# Altium footprint library Capacitor_THT.PcbLib: 378 footprints (part 21 of 24)
Each footprint in its own frame and in the unit in brackets; x right, y up, seen from the top. Pads: shape width x height; smd on the part's side, far side on the other; paste and mask are expansions set on the pad; w line width, h text height; cw(c..) or ccw(c..) is an arc to the next point about the centre after c.
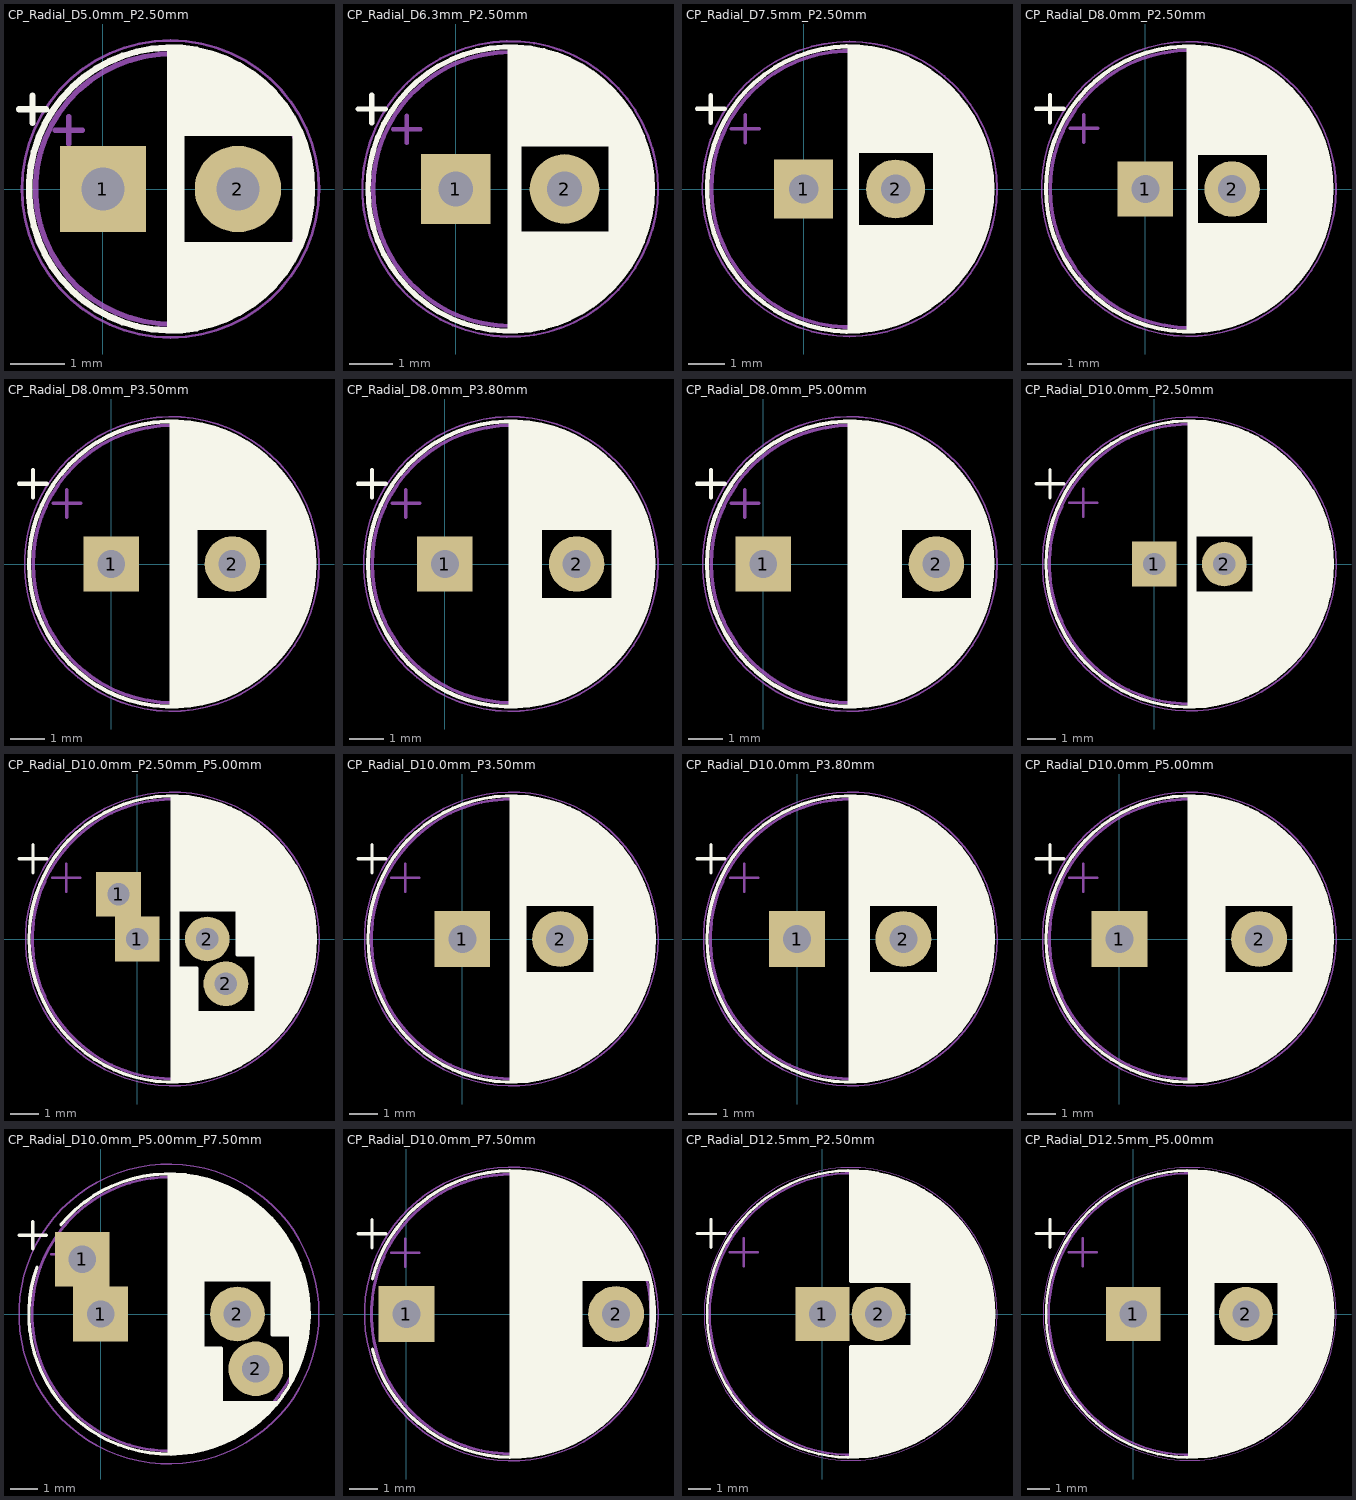
[diagram p20: the footprints below, top view; thin cyan lines are the x and y axes]

## CP_Radial_D5.0mm_P2.50mm [mm]
pads (2):
  rect 1.6x1.6 hole 0.8: 1(0,0)
  round 1.6 hole 0.8: 2(2.5,0)
F.SilkS:
  circle w0.12: c1.25,0 r2.62
  lines w0.12: -1.555,1.475 -1.055,1.475 ; -1.305,1.225 -1.305,1.725 ; 1.25,-2.58 1.25,2.58 ; 1.29,-2.58 1.29,2.58 ; 1.33,-2.579 1.33,2.579 ; 1.37,-2.578 1.37,2.578 ; 1.41,-2.576 1.41,2.576 ; 1.45,-2.573 1.45,2.573 ; 1.49,-2.569 1.49,-1.04 ; 1.49,1.04 1.49,2.569 ; 1.53,-2.565 1.53,-1.04 ; 1.53,1.04 1.53,2.565 ; 1.57,-2.561 1.57,-1.04 ; 1.57,1.04 1.57,2.561 ; 1.61,-2.556 1.61,-1.04 ; 1.61,1.04 1.61,2.556 ; 1.65,-2.55 1.65,-1.04 ; 1.65,1.04 1.65,2.55 ; 1.69,-2.543 1.69,-1.04 ; 1.69,1.04 1.69,2.543 ; 1.73,-2.536 1.73,-1.04 ; 1.73,1.04 1.73,2.536 ; 1.77,-2.528 1.77,-1.04 ; 1.77,1.04 1.77,2.528 ; 1.81,-2.52 1.81,-1.04 ; 1.81,1.04 1.81,2.52 ; 1.85,-2.511 1.85,-1.04 ; 1.85,1.04 1.85,2.511 ; 1.89,-2.501 1.89,-1.04 ; 1.89,1.04 1.89,2.501 ; 1.93,-2.491 1.93,-1.04 ; 1.93,1.04 1.93,2.491 ; 1.971,-2.48 1.971,-1.04 ; 1.971,1.04 1.971,2.48 ; 2.011,-2.468 2.011,-1.04 ; 2.011,1.04 2.011,2.468 ; 2.051,-2.455 2.051,-1.04 ; 2.051,1.04 2.051,2.455 ; 2.091,-2.442 2.091,-1.04 ; 2.091,1.04 2.091,2.442 ; 2.131,-2.428 2.131,-1.04 ; 2.131,1.04 2.131,2.428 ; 2.171,-2.414 2.171,-1.04 ; 2.171,1.04 2.171,2.414 ; 2.211,-2.398 2.211,-1.04 ; 2.211,1.04 2.211,2.398 ; 2.251,-2.382 2.251,-1.04 ; 2.251,1.04 2.251,2.382 ; 2.291,-2.365 2.291,-1.04 ; 2.291,1.04 2.291,2.365 ; 2.331,-2.348 2.331,-1.04 ; 2.331,1.04 2.331,2.348 ; 2.371,-2.329 2.371,-1.04 ; 2.371,1.04 2.371,2.329 ; 2.411,-2.31 2.411,-1.04 ; 2.411,1.04 2.411,2.31 ; 2.451,-2.29 2.451,-1.04 ; 2.451,1.04 2.451,2.29 ; 2.491,-2.268 2.491,-1.04 ; 2.491,1.04 2.491,2.268 ; 2.531,-2.247 2.531,-1.04 ; 2.531,1.04 2.531,2.247 ; 2.571,-2.224 2.571,-1.04 ; 2.571,1.04 2.571,2.224 ; 2.611,-2.2 2.611,-1.04 ; 2.611,1.04 2.611,2.2 ; 2.651,-2.175 2.651,-1.04 ; 2.651,1.04 2.651,2.175 ; 2.691,-2.149 2.691,-1.04 ; 2.691,1.04 2.691,2.149 ; 2.731,-2.122 2.731,-1.04 ; 2.731,1.04 2.731,2.122 ; 2.771,-2.095 2.771,-1.04 ; 2.771,1.04 2.771,2.095 ; 2.811,-2.065 2.811,-1.04 ; 2.811,1.04 2.811,2.065 ; 2.851,-2.035 2.851,-1.04 ; 2.851,1.04 2.851,2.035 ; 2.891,-2.004 2.891,-1.04 ; 2.891,1.04 2.891,2.004 ; 2.931,-1.971 2.931,-1.04 ; 2.931,1.04 2.931,1.971 ; 2.971,-1.937 2.971,-1.04 ; 2.971,1.04 2.971,1.937 ; 3.011,-1.901 3.011,-1.04 ; 3.011,1.04 3.011,1.901 ; 3.051,-1.864 3.051,-1.04 ; 3.051,1.04 3.051,1.864 ; 3.091,-1.826 3.091,-1.04 ; 3.091,1.04 3.091,1.826 ; 3.131,-1.785 3.131,-1.04 ; 3.131,1.04 3.131,1.785 ; 3.171,-1.743 3.171,-1.04 ; 3.171,1.04 3.171,1.743 ; 3.211,-1.699 3.211,-1.04 ; 3.211,1.04 3.211,1.699 ; 3.251,-1.653 3.251,-1.04 ; 3.251,1.04 3.251,1.653 ; 3.291,-1.605 3.291,-1.04 ; 3.291,1.04 3.291,1.605 ; 3.331,-1.554 3.331,-1.04 ; 3.331,1.04 3.331,1.554 ; 3.371,-1.5 3.371,-1.04 ; 3.371,1.04 3.371,1.5 ; 3.411,-1.443 3.411,-1.04 ; 3.411,1.04 3.411,1.443 ; 3.451,-1.383 3.451,-1.04 ; 3.451,1.04 3.451,1.383 ; 3.491,-1.319 3.491,-1.04 ; 3.491,1.04 3.491,1.319 ; 3.531,-1.251 3.531,-1.04 ; 3.531,1.04 3.531,1.251 ; 3.571,-1.178 3.571,1.178 ; 3.611,-1.098 3.611,1.098 ; 3.651,-1.011 3.651,1.011 ; 3.691,-0.915 3.691,0.915 ; 3.731,-0.805 3.731,0.805 ; 3.771,-0.677 3.771,0.677 ; 3.811,-0.518 3.811,0.518 ; 3.851,-0.284 3.851,0.284
F.CrtYd:
  circle w0.05: c1.25,0 r2.75
F.Fab:
  circle w0.1: c1.25,0 r2.5
  lines w0.1: -0.884,1.088 -0.384,1.088 ; -0.634,0.837 -0.634,1.338
  text "'.Designator'" at -2.797,-0.84 h1

## CP_Radial_D6.3mm_P2.50mm [mm]
pads (2):
  rect 1.6x1.6 hole 0.8: 1(0,0)
  round 1.6 hole 0.8: 2(2.5,0)
F.SilkS:
  circle w0.12: c1.25,0 r3.27
  lines w0.12: -2.25,1.839 -1.62,1.839 ; -1.935,1.524 -1.935,2.154 ; 1.25,-3.23 1.25,3.23 ; 1.29,-3.23 1.29,3.23 ; 1.33,-3.23 1.33,3.23 ; 1.37,-3.228 1.37,3.228 ; 1.41,-3.227 1.41,3.227 ; 1.45,-3.224 1.45,3.224 ; 1.49,-3.222 1.49,-1.04 ; 1.49,1.04 1.49,3.222 ; 1.53,-3.218 1.53,-1.04 ; 1.53,1.04 1.53,3.218 ; 1.57,-3.215 1.57,-1.04 ; 1.57,1.04 1.57,3.215 ; 1.61,-3.211 1.61,-1.04 ; 1.61,1.04 1.61,3.211 ; 1.65,-3.206 1.65,-1.04 ; 1.65,1.04 1.65,3.206 ; 1.69,-3.201 1.69,-1.04 ; 1.69,1.04 1.69,3.201 ; 1.73,-3.195 1.73,-1.04 ; 1.73,1.04 1.73,3.195 ; 1.77,-3.189 1.77,-1.04 ; 1.77,1.04 1.77,3.189 ; 1.81,-3.182 1.81,-1.04 ; 1.81,1.04 1.81,3.182 ; 1.85,-3.175 1.85,-1.04 ; 1.85,1.04 1.85,3.175 ; 1.89,-3.167 1.89,-1.04 ; 1.89,1.04 1.89,3.167 ; 1.93,-3.159 1.93,-1.04 ; 1.93,1.04 1.93,3.159 ; 1.971,-3.15 1.971,-1.04 ; 1.971,1.04 1.971,3.15 ; 2.011,-3.141 2.011,-1.04 ; 2.011,1.04 2.011,3.141 ; 2.051,-3.131 2.051,-1.04 ; 2.051,1.04 2.051,3.131 ; 2.091,-3.121 2.091,-1.04 ; 2.091,1.04 2.091,3.121 ; 2.131,-3.11 2.131,-1.04 ; 2.131,1.04 2.131,3.11 ; 2.171,-3.098 2.171,-1.04 ; 2.171,1.04 2.171,3.098 ; 2.211,-3.086 2.211,-1.04 ; 2.211,1.04 2.211,3.086 ; 2.251,-3.074 2.251,-1.04 ; 2.251,1.04 2.251,3.074 ; 2.291,-3.061 2.291,-1.04 ; 2.291,1.04 2.291,3.061 ; 2.331,-3.047 2.331,-1.04 ; 2.331,1.04 2.331,3.047 ; 2.371,-3.033 2.371,-1.04 ; 2.371,1.04 2.371,3.033 ; 2.411,-3.018 2.411,-1.04 ; 2.411,1.04 2.411,3.018 ; 2.451,-3.002 2.451,-1.04 ; 2.451,1.04 2.451,3.002 ; 2.491,-2.986 2.491,-1.04 ; 2.491,1.04 2.491,2.986 ; 2.531,-2.97 2.531,-1.04 ; 2.531,1.04 2.531,2.97 ; 2.571,-2.952 2.571,-1.04 ; 2.571,1.04 2.571,2.952 ; 2.611,-2.934 2.611,-1.04 ; 2.611,1.04 2.611,2.934 ; 2.651,-2.916 2.651,-1.04 ; 2.651,1.04 2.651,2.916 ; 2.691,-2.896 2.691,-1.04 ; 2.691,1.04 2.691,2.896 ; 2.731,-2.876 2.731,-1.04 ; 2.731,1.04 2.731,2.876 ; 2.771,-2.856 2.771,-1.04 ; 2.771,1.04 2.771,2.856 ; 2.811,-2.834 2.811,-1.04 ; 2.811,1.04 2.811,2.834 ; 2.851,-2.812 2.851,-1.04 ; 2.851,1.04 2.851,2.812 ; 2.891,-2.79 2.891,-1.04 ; 2.891,1.04 2.891,2.79 ; 2.931,-2.766 2.931,-1.04 ; 2.931,1.04 2.931,2.766 ; 2.971,-2.742 2.971,-1.04 ; 2.971,1.04 2.971,2.742 ; 3.011,-2.716 3.011,-1.04 ; 3.011,1.04 3.011,2.716 ; 3.051,-2.69 3.051,-1.04 ; 3.051,1.04 3.051,2.69 ; 3.091,-2.664 3.091,-1.04 ; 3.091,1.04 3.091,2.664 ; 3.131,-2.636 3.131,-1.04 ; 3.131,1.04 3.131,2.636 ; 3.171,-2.607 3.171,-1.04 ; 3.171,1.04 3.171,2.607 ; 3.211,-2.578 3.211,-1.04 ; 3.211,1.04 3.211,2.578 ; 3.251,-2.548 3.251,-1.04 ; 3.251,1.04 3.251,2.548 ; 3.291,-2.516 3.291,-1.04 ; 3.291,1.04 3.291,2.516 ; 3.331,-2.484 3.331,-1.04 ; 3.331,1.04 3.331,2.484 ; 3.371,-2.45 3.371,-1.04 ; 3.371,1.04 3.371,2.45 ; 3.411,-2.416 3.411,-1.04 ; 3.411,1.04 3.411,2.416 ; 3.451,-2.38 3.451,-1.04 ; 3.451,1.04 3.451,2.38 ; 3.491,-2.343 3.491,-1.04 ; 3.491,1.04 3.491,2.343 ; 3.531,-2.305 3.531,-1.04 ; 3.531,1.04 3.531,2.305 ; 3.571,-2.265 3.571,2.265 ; 3.611,-2.224 3.611,2.224 ; 3.651,-2.182 3.651,2.182 ; 3.691,-2.137 3.691,2.137 ; 3.731,-2.092 3.731,2.092 ; 3.771,-2.044 3.771,2.044 ; 3.811,-1.995 3.811,1.995 ; 3.851,-1.944 3.851,1.944 ; 3.891,-1.89 3.891,1.89 ; 3.931,-1.834 3.931,1.834 ; 3.971,-1.776 3.971,1.776 ; 4.011,-1.714 4.011,1.714 ; 4.051,-1.65 4.051,1.65 ; 4.091,-1.581 4.091,1.581 ; 4.131,-1.509 4.131,1.509 ; 4.171,-1.432 4.171,1.432 ; 4.211,-1.35 4.211,1.35 ; 4.251,-1.262 4.251,1.262 ; 4.291,-1.165 4.291,1.165 ; 4.331,-1.059 4.331,1.059 ; 4.371,-0.94 4.371,0.94 ; 4.411,-0.802 4.411,0.802 ; 4.451,-0.633 4.451,0.633 ; 4.491,-0.402 4.491,0.402
F.CrtYd:
  circle w0.05: c1.25,0 r3.4
F.Fab:
  circle w0.1: c1.25,0 r3.15
  lines w0.1: -1.444,1.373 -0.814,1.373 ; -1.129,1.058 -1.129,1.689
  text "'.Designator'" at -2.797,-0.84 h1

## CP_Radial_D7.5mm_P2.50mm [mm]
pads (2):
  rect 1.6x1.6 hole 0.8: 1(0,0)
  round 1.6 hole 0.8: 2(2.5,0)
F.SilkS:
  drawing of 152 lines, arcs and shapes, not listed
F.CrtYd:
  circle w0.05: c1.25,0 r4
F.Fab:
  circle w0.1: c1.25,0 r3.75
  lines w0.1: -1.961,1.637 -1.211,1.637 ; -1.586,1.262 -1.586,2.013
  text "'.Designator'" at -2.797,-0.84 h1

## CP_Radial_D8.0mm_P2.50mm [mm]
pads (2):
  rect 1.6x1.6 hole 0.8: 1(0,0)
  round 1.6 hole 0.8: 2(2.5,0)
F.SilkS:
  drawing of 158 lines, arcs and shapes, not listed
F.CrtYd:
  circle w0.05: c1.25,0 r4.25
F.Fab:
  circle w0.1: c1.25,0 r4
  lines w0.1: -2.177,1.747 -1.377,1.747 ; -1.777,1.348 -1.777,2.147
  text "'.Designator'" at -2.797,-0.84 h1

## CP_Radial_D8.0mm_P3.50mm [mm]
pads (2):
  rect 1.6x1.6 hole 0.8: 1(0,0)
  round 1.6 hole 0.8: 2(3.5,0)
F.SilkS:
  drawing of 158 lines, arcs and shapes, not listed
F.CrtYd:
  circle w0.05: c1.75,0 r4.25
F.Fab:
  circle w0.1: c1.75,0 r4
  lines w0.1: -1.677,1.747 -0.877,1.747 ; -1.277,1.348 -1.277,2.147
  text "'.Designator'" at -2.297,-0.84 h1

## CP_Radial_D8.0mm_P3.80mm [mm]
pads (2):
  rect 1.6x1.6 hole 0.8: 1(0,0)
  round 1.6 hole 0.8: 2(3.8,0)
F.SilkS:
  drawing of 158 lines, arcs and shapes, not listed
F.CrtYd:
  circle w0.05: c1.9,0 r4.25
F.Fab:
  circle w0.1: c1.9,0 r4
  lines w0.1: -1.527,1.747 -0.727,1.747 ; -1.127,1.348 -1.127,2.147
  text "'.Designator'" at -2.147,-0.84 h1

## CP_Radial_D8.0mm_P5.00mm [mm]
pads (2):
  rect 1.6x1.6 hole 0.8: 1(0,0)
  round 1.6 hole 0.8: 2(5,0)
F.SilkS:
  drawing of 158 lines, arcs and shapes, not listed
F.CrtYd:
  circle w0.05: c2.5,0 r4.25
F.Fab:
  circle w0.1: c2.5,0 r4
  lines w0.1: -0.927,1.747 -0.127,1.747 ; -0.527,1.348 -0.527,2.147
  text "'.Designator'" at -1.547,-0.84 h1

## CP_Radial_D10.0mm_P2.50mm [mm]
pads (2):
  rect 1.6x1.6 hole 0.8: 1(0,0)
  round 1.6 hole 0.8: 2(2.5,0)
F.SilkS:
  drawing of 183 lines, arcs and shapes, not listed
F.CrtYd:
  circle w0.05: c1.25,0 r5.25
F.Fab:
  circle w0.1: c1.25,0 r5
  lines w0.1: -3.039,2.187 -2.039,2.187 ; -2.539,1.687 -2.539,2.688
  text "'.Designator'" at -2.797,-0.84 h1

## CP_Radial_D10.0mm_P2.50mm_P5.00mm [mm]
pads (4):
  rect 1.6x1.6 hole 0.8: 1(-0.671,1.6) 1(0,0)
  round 1.6 hole 0.8: 2(2.5,0) 2(3.171,-1.6)
F.SilkS:
  drawing of 200 lines, arcs and shapes, not listed
F.CrtYd:
  circle w0.05: c1.25,0 r5.25
F.Fab:
  circle w0.1: c1.25,0 r5
  lines w0.1: -3.039,2.187 -2.039,2.187 ; -2.539,1.687 -2.539,2.688
  text "'.Designator'" at -2.797,-0.84 h1

## CP_Radial_D10.0mm_P3.50mm [mm]
pads (2):
  rect 2x2 hole 1: 1(0,0)
  round 2 hole 1: 2(3.5,0)
F.SilkS:
  drawing of 193 lines, arcs and shapes, not listed
F.CrtYd:
  circle w0.05: c1.75,0 r5.25
F.Fab:
  circle w0.1: c1.75,0 r5
  lines w0.1: -2.539,2.187 -1.539,2.187 ; -2.039,1.687 -2.039,2.688
  text "'.Designator'" at -2.297,-0.84 h1

## CP_Radial_D10.0mm_P3.80mm [mm]
pads (2):
  rect 2x2 hole 1: 1(0,0)
  round 2 hole 1: 2(3.8,0)
F.SilkS:
  drawing of 193 lines, arcs and shapes, not listed
F.CrtYd:
  circle w0.05: c1.9,0 r5.25
F.Fab:
  circle w0.1: c1.9,0 r5
  lines w0.1: -2.389,2.187 -1.389,2.187 ; -1.889,1.687 -1.889,2.688
  text "'.Designator'" at -2.147,-0.84 h1

## CP_Radial_D10.0mm_P5.00mm [mm]
pads (2):
  rect 2x2 hole 1: 1(0,0)
  round 2 hole 1: 2(5,0)
F.SilkS:
  drawing of 193 lines, arcs and shapes, not listed
F.CrtYd:
  circle w0.05: c2.5,0 r5.25
F.Fab:
  circle w0.1: c2.5,0 r5
  lines w0.1: -1.789,2.187 -0.789,2.187 ; -1.289,1.687 -1.289,2.688
  text "'.Designator'" at -1.547,-0.84 h1

## CP_Radial_D10.0mm_P5.00mm_P7.50mm [mm]
pads (4):
  rect 2x2 hole 1: 1(-0.672,2) 1(0,0)
  round 2 hole 1: 2(5,0) 2(5.672,-2)
F.SilkS:
  drawing of 198 lines, arcs and shapes, not listed
F.CrtYd:
  circle w0.05: c2.5,0 r5.48
F.Fab:
  circle w0.1: c2.5,0 r5
  lines w0.1: -1.789,2.187 -0.789,2.187 ; -1.289,1.687 -1.289,2.688
  text "'.Designator'" at -1.547,-0.84 h1

## CP_Radial_D10.0mm_P7.50mm [mm]
pads (2):
  rect 2x2 hole 1: 1(0,0)
  round 2 hole 1: 2(7.5,0)
F.SilkS:
  drawing of 191 lines, arcs and shapes, not listed
F.CrtYd:
  circle w0.05: c3.75,0 r5.25
F.Fab:
  circle w0.1: c3.75,0 r5
  lines w0.1: -0.539,2.187 0.461,2.187 ; -0.039,1.687 -0.039,2.688
  text "'.Designator'" at -0.297,-0.84 h1

## CP_Radial_D12.5mm_P2.50mm [mm]
pads (2):
  rect 2.4x2.4 hole 1.2: 1(0,0)
  round 2.4 hole 1.2: 2(2.5,0)
F.SilkS:
  drawing of 231 lines, arcs and shapes, not listed
F.CrtYd:
  circle w0.05: c1.25,0 r6.5
F.Fab:
  circle w0.1: c1.25,0 r6.25
  lines w0.1: -4.116,2.738 -2.866,2.738 ; -3.491,2.113 -3.491,3.363
  text "'.Designator'" at -2.797,-0.84 h1

## CP_Radial_D12.5mm_P5.00mm [mm]
pads (2):
  rect 2.4x2.4 hole 1.2: 1(0,0)
  round 2.4 hole 1.2: 2(5,0)
F.SilkS:
  drawing of 235 lines, arcs and shapes, not listed
F.CrtYd:
  circle w0.05: c2.5,0 r6.5
F.Fab:
  circle w0.1: c2.5,0 r6.25
  lines w0.1: -2.866,2.738 -1.616,2.738 ; -2.241,2.113 -2.241,3.363
  text "'.Designator'" at -1.547,-0.84 h1